# Altium schematic symbol library LP2292AIM5-5.0 (5V LDO).SchLib: 1 symbol
Pins are listed as number, name and electrical type; pins without a type are passive.

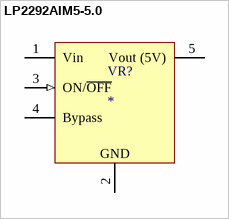
[diagram p0: symbol LP2292AIM5-5.0]

## LP2292AIM5-5.0
designator VR?
5V LDO Regulator; farnell: 1685561
footprint LP2992AIM5-5.0 (5V LDO Regulator)
pins: 1 Vin (power), 2 GND (power), 3 ON/~{OFF} (in) "Must be actively terminated", 4 Bypass (power), 5 Vout (5V) (power)